# Altium integrated library ZMOD4410.IntLib: 1 symbol
Pins are listed as number, name and electrical type; pins without a type are passive.

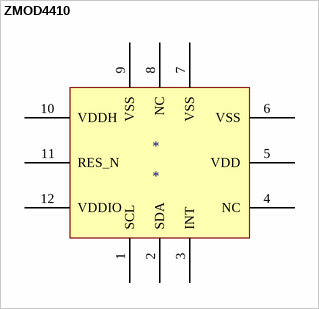
[diagram p0: symbol ZMOD4410]

## ZMOD4410
designator *
Manufacturer: TI; Manufacturer Part Number: TCA9517DGKR; Place: YES; Distributor: RS-Online; Distributor Part Number: 825-3514
footprint ZMOD4410
pins: 1 SCL, 2 SDA, 3 INT, 4 NC, 5 VDD, 6 VSS, 7 VSS, 8 NC, 9 VSS, 10 VDDH, 11 RES_N, 12 VDDIO